# Altium footprint library AP9234L.PcbLib: 1 footprints
Each footprint in its own frame and in the unit in brackets; x right, y up, seen from the top. Pads: shape width x height; smd on the part's side, far side on the other; paste and mask are expansions set on the pad; w line width, h text height; cw(c..) or ccw(c..) is an arc to the next point about the centre after c.
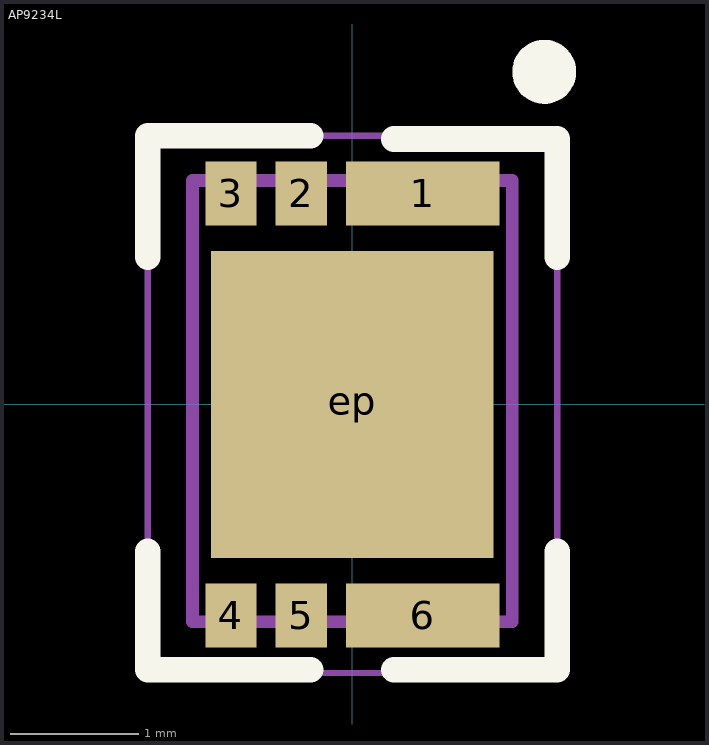
[diagram p0: the footprint, top view; thin cyan lines are the x and y axes]

## AP9234L [mm] "SINGLE CHIP SOLUTION FOR 1-CELL Li+ BATTERY PACK"
height 0.6
pads (7):
  rect 1.2x0.5 smd: 1(0.55,1.65) 6(0.55,-1.65)
  rect 0.4x0.5 smd: 2(-0.4,1.65) 3(-0.95,1.65) 4(-0.95,-1.65) 5(-0.4,-1.65)
  rect 2.21x2.4 smd: ep(0,0)
Top Overlay:
  circle w0.25: c1.5,2.6 r0.125
  lines w0.2: -1.6,-1.15 -1.6,-2.075 -0.325,-2.075 ; -1.6,1.15 -1.6,2.1 -0.325,2.1 ; 0.325,-2.075 1.6,-2.075 1.6,-1.15 ; 0.325,2.075 1.6,2.075 1.6,1.15
Mechanical 13:
  circle w0.1: c-0.475,-0.475 r0.4
  lines w0.1: -1.25,-1.7 1.25,-1.7 1.25,1.75 -1.25,1.75 -1.25,-1.7
Mechanical 15:
  lines w0.05: -1.6,-2.1 1.6,-2.1 1.6,2.1 -1.6,2.1 -1.6,-2.1
  lines w0.1: -0.5,0 0.5,0 ; 0,-0.5 0,0.5
3D body: height 0.6, standoff 0, extent -1.25,-1.7 1.25,1.75